# Altium schematic symbol library IC.SchLib: 13 symbols
Pins are listed as number, name and electrical type; pins without a type are passive.

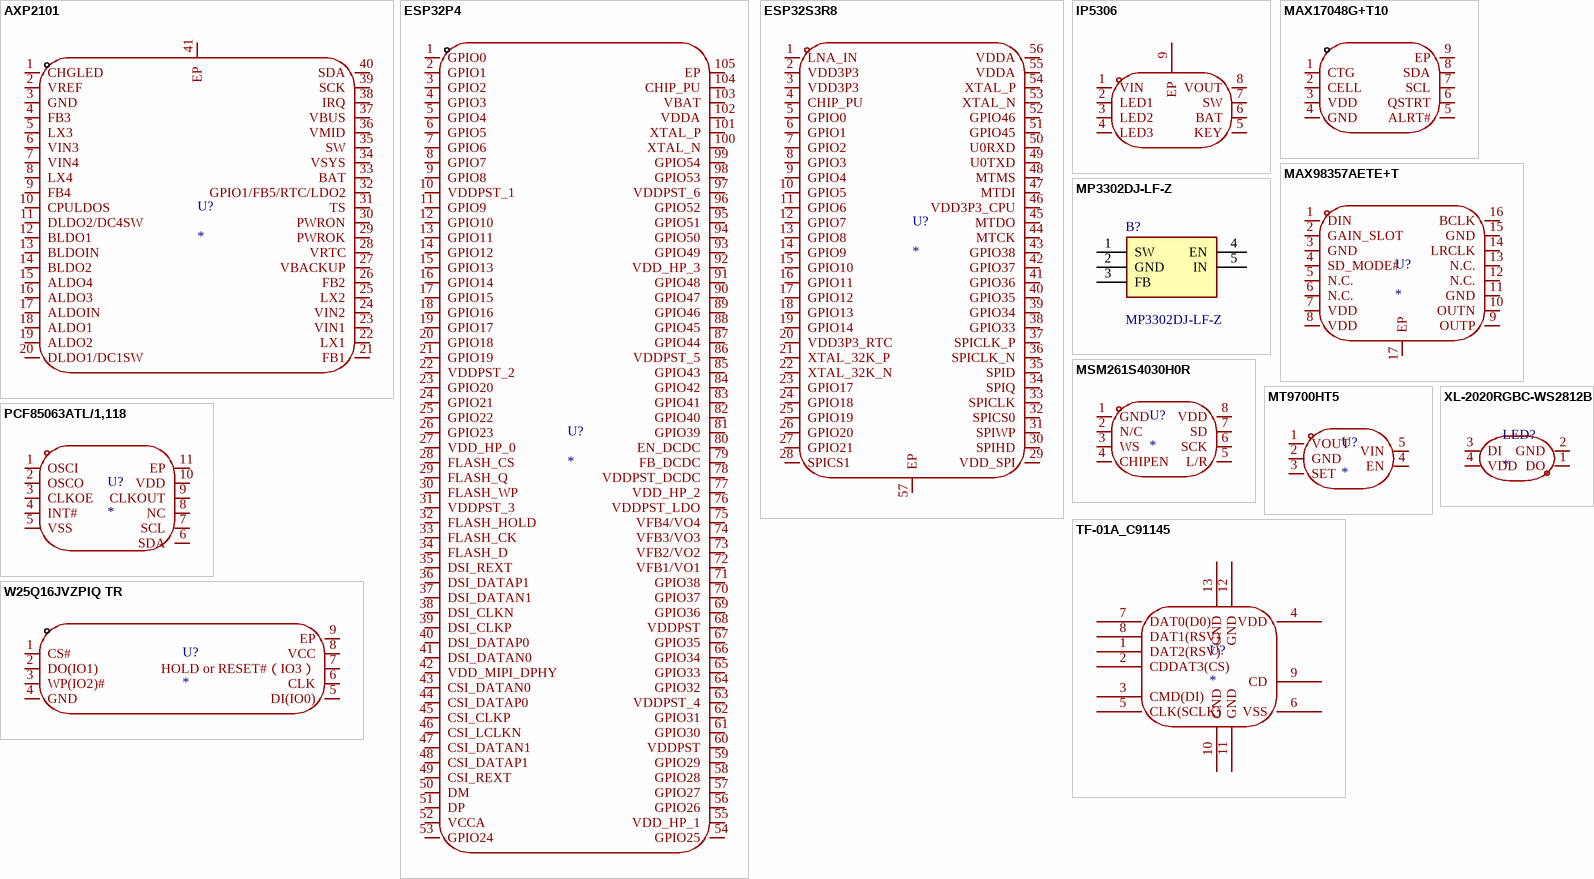
[diagram p0: symbols AXP2101 to XL-2020RGBC-WS2812B]

## AXP2101
designator U?
footprint QFN-40_L5.0-W5.0-P0.40-TL-EP3.4
pins: 1 CHGLED, 2 VREF, 3 GND, 4 FB3, 5 LX3, 6 VIN3, 7 VIN4, 8 LX4, 9 FB4, 10 CPULDOS, 11 DLDO2/DC4SW, 12 BLDO1, 13 BLDOIN, 14 BLDO2, 15 ALDO4, 16 ALDO3, 17 ALDOIN, 18 ALDO1, 19 ALDO2, 20 DLDO1/DC1SW, 21 FB1, 22 LX1, 23 VIN1, 24 VIN2, 25 LX2, 26 FB2, 27 VBACKUP, 28 VRTC, 29 PWROK, 30 PWRON, 31 TS, 32 GPIO1/FB5/RTC/LDO2, 33 BAT, 34 VSYS, 35 SW, 36 VMID, 37 VBUS, 38 IRQ, 39 SCK, 40 SDA, 41 EP

## ESP32P4
designator U?
footprint QFN-104_L10.0-W10.0-P0.35-TL-EP7.5
pins: 1 GPIO0, 2 GPIO1, 3 GPIO2, 4 GPIO3, 5 GPIO4, 6 GPIO5, 7 GPIO6, 8 GPIO7, 9 GPIO8, 10 VDDPST_1, 11 GPIO9, 12 GPIO10, 13 GPIO11, 14 GPIO12, 15 GPIO13, 16 GPIO14, 17 GPIO15, 18 GPIO16, 19 GPIO17, 20 GPIO18, 21 GPIO19, 22 VDDPST_2, 23 GPIO20, 24 GPIO21, 25 GPIO22, 26 GPIO23, 27 VDD_HP_0, 28 FLASH_CS, 29 FLASH_Q, 30 FLASH_WP, 31 VDDPST_3, 32 FLASH_HOLD, 33 FLASH_CK, 34 FLASH_D, 35 DSI_REXT, 36 DSI_DATAP1, 37 DSI_DATAN1, 38 DSI_CLKN, 39 DSI_CLKP, 40 DSI_DATAP0, 41 DSI_DATAN0, 42 VDD_MIPI_DPHY, 43 CSI_DATAN0, 44 CSI_DATAP0, 45 CSI_CLKP, 46 CSI_LCLKN, 47 CSI_DATAN1, 48 CSI_DATAP1, 49 CSI_REXT, 50 DM, 51 DP, 52 VCCA, 53 GPIO24, 54 GPIO25, 55 VDD_HP_1, 56 GPIO26, 57 GPIO27, 58 GPIO28, 59 GPIO29, 60 VDDPST, 61 GPIO30, 62 GPIO31, 63 VDDPST_4, 64 GPIO32, 65 GPIO33, 66 GPIO34, 67 GPIO35, 68 VDDPST, 69 GPIO36, 70 GPIO37, 71 GPIO38, 72 VFB1/VO1, 73 VFB2/VO2, 74 VFB3/VO3, 75 VFB4/VO4, 76 VDDPST_LDO, 77 VDD_HP_2, 78 VDDPST_DCDC, 79 FB_DCDC, 80 EN_DCDC, 81 GPIO39, 82 GPIO40, 83 GPIO41, 84 GPIO42, 85 GPIO43, 86 VDDPST_5, 87 GPIO44, 88 GPIO45, 89 GPIO46, 90 GPIO47, 91 GPIO48, 92 VDD_HP_3, 93 GPIO49, 94 GPIO50, 95 GPIO51, 96 GPIO52, 97 VDDPST_6, 98 GPIO53, 99 GPIO54, 100 XTAL_N, 101 XTAL_P, 102 VDDA, 103 VBAT, 104 CHIP_PU, 105 EP

## ESP32S3R8
designator U?
footprint QFN-56_L7.0-W7.0-P0.40-TL-EP4.0
pins: 1 LNA_IN, 2 VDD3P3, 3 VDD3P3, 4 CHIP_PU, 5 GPIO0, 6 GPIO1, 7 GPIO2, 8 GPIO3, 9 GPIO4, 10 GPIO5, 11 GPIO6, 12 GPIO7, 13 GPIO8, 14 GPIO9, 15 GPIO10, 16 GPIO11, 17 GPIO12, 18 GPIO13, 19 GPIO14, 20 VDD3P3_RTC, 21 XTAL_32K_P, 22 XTAL_32K_N, 23 GPIO17, 24 GPIO18, 25 GPIO19, 26 GPIO20, 27 GPIO21, 28 SPICS1, 29 VDD_SPI, 30 SPIHD, 31 SPIWP, 32 SPICS0, 33 SPICLK, 34 SPIQ, 35 SPID, 36 SPICLK_N, 37 SPICLK_P, 38 GPIO33, 39 GPIO34, 40 GPIO35, 41 GPIO36, 42 GPIO37, 43 GPIO38, 44 MTCK, 45 MTDO, 46 VDD3P3_CPU, 47 MTDI, 48 MTMS, 49 U0TXD, 50 U0RXD, 51 GPIO45, 52 GPIO46, 53 XTAL_N, 54 XTAL_P, 55 VDDA, 56 VDDA, 57 EP

## IP5306
designator U??  (value not drawn)
Manufacturer: INJOINIC(英集芯); Add into BOM: yes; Symbol: IP5306; Device: IP5306; LCSC Part Name: IP5306; Supplier Part: C181692; Manufacturer Part: IP5306; Supplier Footprint: ESOP-8; JLCPCB Part Class: Extended Part; Datasheet: https://atta.szlcsc.com/upload/public/pdf/source/20190627/C384572_9925B3DDC4041BC6108E5AB46A2A0AB1.pdf; Supplier: LCSC; Convert to PCB: yes
footprint ESOP-8_L4.9-W3.9-P1.27-LS6.0-BL-EP
pins: 1 VIN, 2 LED1, 3 LED2, 4 LED3, 5 KEY, 6 BAT, 7 SW, 8 VOUT, 9 EP

## MAX17048G+T10
designator U??  (value not drawn)
Manufacturer: ADI(亚德诺)/MAXIM(美信); Add into BOM: yes; The Chip Type: Battery monitoring chip; Voltage - Supply: 2.5V~4.5V; Type of Battery: Lithium-ion/Polymer; Number of Cells: 1; Symbol: MAX17048G+T10; Device: MAX17048G+T10; LCSC Part Name: 单节/双节电池电量计使用ModelGauge技术; Supplier Part: C2682616; Manufacturer Part: MAX17048G+T10; Supplier Footprint: DFN-8-EP(2x2); JLCPCB Part Class: Extended Part; Datasheet: https://atta.szlcsc.com/upload/public/pdf/source/20210106/C2682616_818568B5D3BA4B627110FCAA33E0BFB1.pdf; Supplier: LCSC; Convert to PCB: yes; Operating Temperature: -40℃~+85℃
footprint TDFN-8_L2.0-W2.0-P0.50-BL-EP1.2
pins: 1 CTG, 2 CELL, 3 VDD, 4 GND, 5 ALRT#, 6 QSTRT, 7 SCL, 8 SDA, 9 EP

## MAX98357AETE+T
designator U?
footprint TQFN-16_L3.0-W3.0-P0.50-BL-EP1.5
pins: 1 DIN, 2 GAIN_SLOT, 3 GND, 4 SD_MODE#, 5 N.C., 6 N.C., 7 VDD, 8 VDD, 9 OUTP, 10 OUTN, 11 GND, 12 N.C., 13 N.C., 14 LRCLK, 15 GND, 16 BCLK, 17 EP

## MP3302DJ-LF-Z
designator B?
LED Lighting Drivers 1.3A, 1.3MHz WLED Driver; Manufacturer_Name: Monolithic Power Systems (MPS); Geometry.Height: 1mm; Mouser Part Number: 946-MP3302DJLFZ; Mouser Price/Stock: https://www.mouser.co.uk/ProductDetail/Monolithic-Power-Systems-MPS/MP3302DJ-LF-Z?qs=rC7bBWoQAAmgkwFvMFHCAg%3D%3D; Manufacturer_Part_Number: MP3302DJ-LF-Z; Datasheet Link: https://componentsearchengine.com/Datasheets/1/MP3302DJ-LF-Z.pdf
footprint SOT95P280X100-5N
footprint SOT95P280X100-5N
pins: 1 SW, 2 GND, 3 FB, 4 EN, 5 IN

## MSM261S4030H0R
designator U?
footprint MIC-SMD_8P-L4.0-W3.0-P1.00-BR
pins: 1 GND, 2 N/C, 3 WS, 4 CHIPEN, 5 L/R, 6 SCK, 7 SD, 8 VDD

## MT9700HT5
designator U?
footprint SOT-23-5_L3.0-W1.7-P0.95-LS2.8-BL
pins: 1 VOUT, 2 GND, 3 SET, 4 EN, 5 VIN

## PCF85063ATL/1,118
designator U?
footprint DFN-10_L2.6-W2.6-P0.50-BL-EP
pins: 1 OSCI, 2 OSCO, 3 CLKOE, 4 INT#, 5 VSS, 6 SDA, 7 SCL, 8 NC, 9 CLKOUT, 10 VDD, 11 EP

## TF-01A_C91145
designator U?
footprint TF-SMD_TF-01A
pins: 1 DAT2(RSV), 2 CDDAT3(CS), 3 CMD(DI), 4 VDD, 5 CLK(SCLK), 6 VSS, 7 DAT0(D0), 8 DAT1(RSV), 9 CD, 10 GND, 11 GND, 12 GND, 13 GND

## W25Q16JVZPIQ TR
designator U?
footprint WSON-8_L6.0-W5.0-P1.27-BL-EP
pins: 1 CS#, 2 DO(IO1), 3 WP(IO2)#, 4 GND, 5 DI(IO0), 6 CLK, 7 HOLD or RESET#（IO3）, 8 VCC, 9 EP

## XL-2020RGBC-WS2812B
designator LED?
footprint LED-SMD_4P-L2.0-W2.0-BR-1
pins: 1 DO, 2 GND, 3 DI, 4 VDD